# Altium schematic symbol library IQXT-350.SchLib: 1 symbol
Pins are listed as number, name and electrical type; pins without a type are passive.

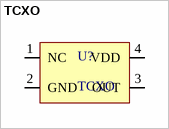
[diagram p0: symbol TCXO]

## TCXO
designator U?
Temperature compensated Crystal oscillator
footprint IQXT-350
pins: 1 NC, 2 GND, 3 OUT, 4 VDD